# Altium schematic symbol library pporyzala-TI_Lighting.SchLib: 745 symbols (part 37 of 48)
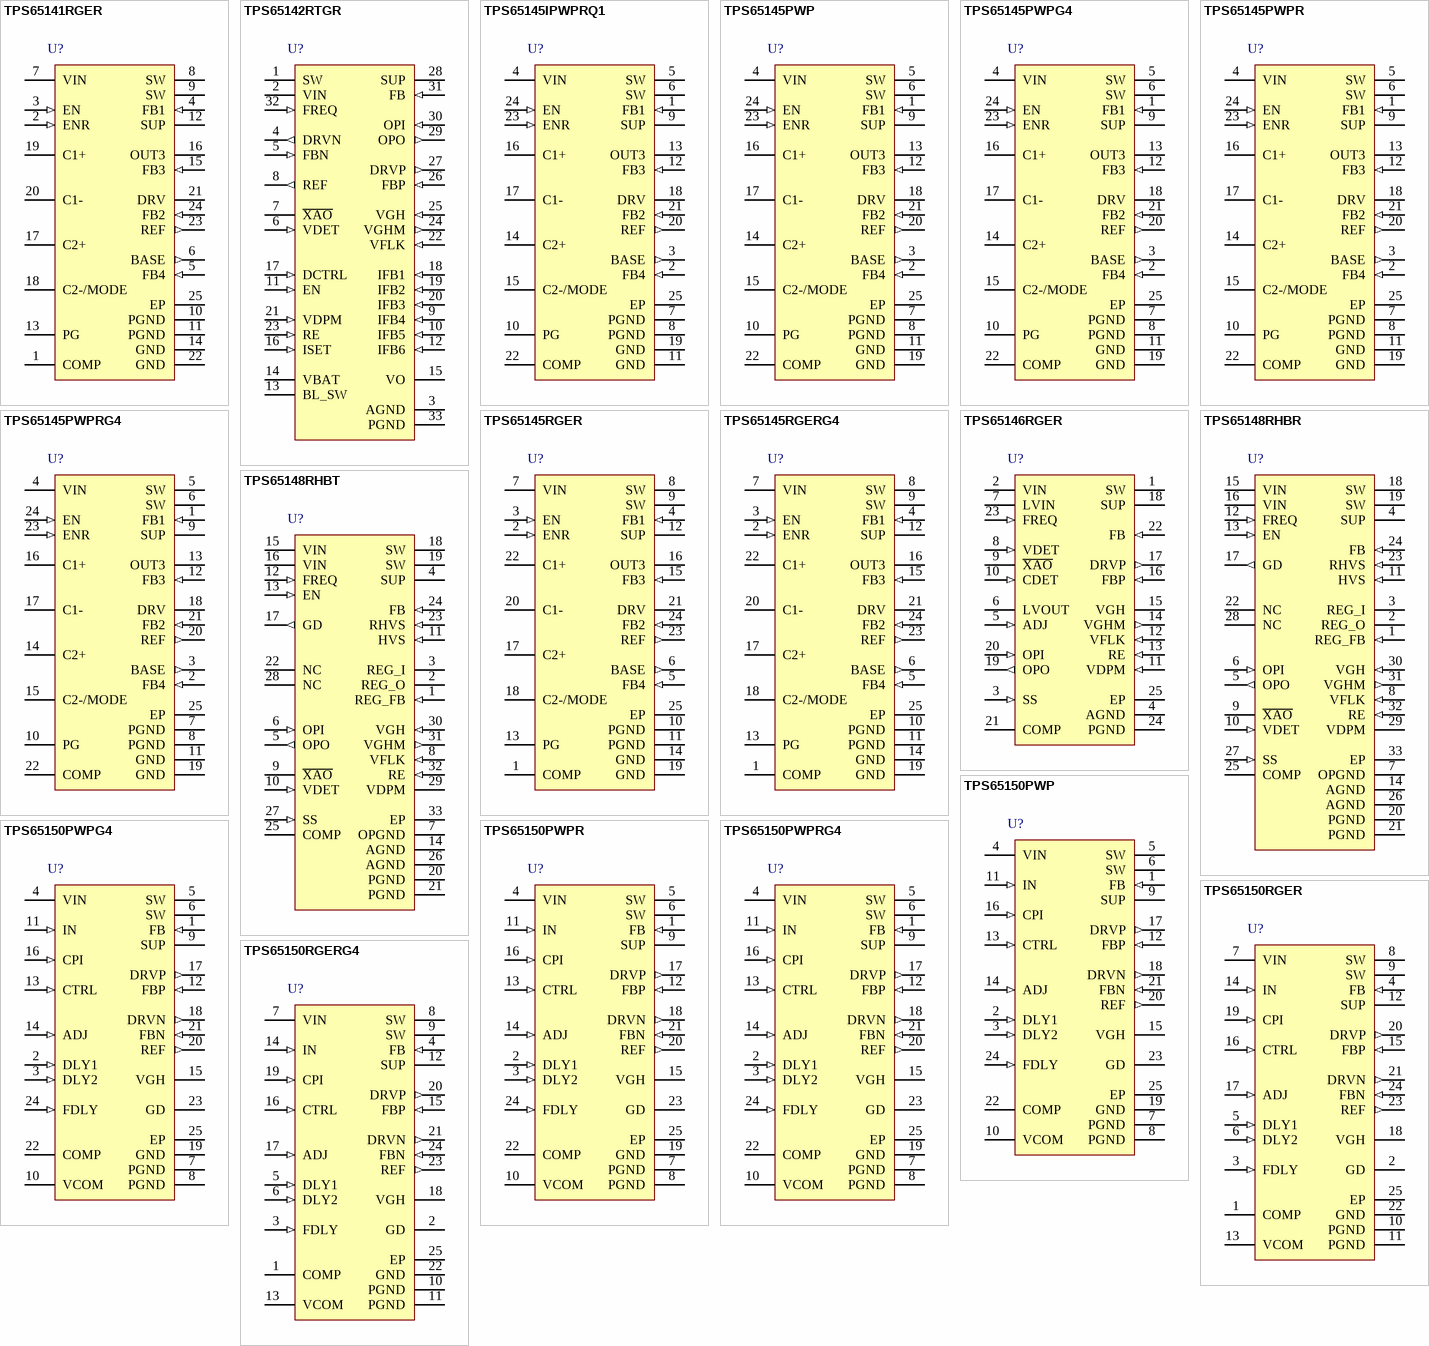
[diagram p67: symbols TPS65141RGER to TPS65150RGERG4]

## TPS65145RGER
designator U?
4-Channel LCD Bias with Fully Integrated Postive Charge Pump, 3.3 V LDO Controller, 2.7 to 5.8 V, -40 to 85 degC, 24-pin QFN (RGE24), Green (RoHS & no Sb/Br); Manufacturer: Texas Instruments; PartNumber: TPS65145RGER; Iout(Max)(A): 0.02; Iq(Typ)(mA): 0.7; Rating: Catalog; SubFamily: LCD/OLED Display Bias Solutions; Switching Frequency(Typ)(kHz): 1600; Topology: Boost, Inverting Buck/Boost; Vin(Max)(V): 5.8; Vin(Min)(V): 2.7; DatasheetVersion: SLVS497E; PackageVersion: 4204104/G; PackageReference: RGE24-2450X2450TP; PackageDescription: 24-Pin Plastic Flat Pack, Body 4 x 4 mm, 0.5 mm Pitch; Supplier 1: Digi-Key; Supplier Part Number 1: 296-16904-2-ND; Supplier 2: Digi-Key; Supplier Part Number 2: 296-16904-1-ND; Supplier 3: Digi-Key; Supplier Part Number 3: 296-16904-6-ND; Supplier 4: Newark; Supplier Part Number 4: 87H2929; Supplier 5: Mouser; Supplier Part Number 5: 595-TPS65145RGER; Eco-Plan: Green (RoHS & no Sb/Br); Mounting Technology: Surface Mount; Code_JEDEC: MO-220; ComponentLink1Description: Manufacturer URL; ComponentLink1URL: http://www.ti.com/; ComponentLink2Description: Datasheet; ComponentLink2URL: http://www.ti.com/general/docs/lit/getliterature.tsp?genericPartNumber=TPS65145&fileType=pdf; ComponentLink3Description: Package Specification; ComponentLink3URL: http://www.ti.com/litv/pdf/mpqf124f
footprint TI-RGE24-2450X2450TP_V (QFN, 24-Leads, Body 4x4mm, Pitch 0.5mm, Thermal Pad 2.45x2.45mm)
pins: 1 COMP "Compensation pin for the main boost converter. A small capacitor is connected to this pin.", 2 ENR (in) "Enable pin of the linear regulator controller. This pin should be terminated and not be left floating. Logic high enables the regulator and a logic low puts the regulator in shutdown.", 3 EN (in) "Enable pin of the device.This pin should be terminated and be left floating.A logic high enables the device and a logic low shuts down the device.", 4 FB1 (in) "Feedback pin of the boost converter", 5 FB4 (in) "Feedback pin the of the linear regulator controller .The linear regulator controller is set to a fixed output voltage of 3.3 V of 3 V depending on the version.", 6 BASE (out) "Base drive output for the external transistor", 7 VIN (power) "Input voltage pin of the device.", 8 SW (power) "Switch pin of the boost converter", 9 SW (power) "Switch pin of the boost converter", 10 PGND (power) "Power ground", 11 PGND (power) "Power ground", 12 SUP (power) "Supply pin of the positive, negative charge pump, boost converter, and gate drive circuit.This pin needs to be connected to the output of the main boots converter and cannot be onnected to any other voltage source.For (See Datasheet)", 13 PG (oc) "Open drain output indicating when all outputs VO1, VO2, VO3 are within 10% of their nominal output voltage. The output goes low when one of the outputs falls below 10% of their nominal output voltage.", 14 GND (power) "Ground", 15 FB3 (in) "Feedback pin of positive charge pump", 16 OUT3 (power) "Positive charge pump output", 17 C2+ "Positive terminal for the charge pump flying capacitor. If the device runs in voltage doubler mode, this pin needs to be left open.", 18 C2-/MODE "Negative terminal of the charge pump flying capacitor and charge pump MODE pin. If the flying capacitor is connected to this pin, the concerter operates in a voltage tripler mode.if the charge pump needs to operate in a (See Datasheet)", 19 GND (power) "Ground", 20 C1- "Negative terminal of the charge pump flying capacitor", 21 DRV (power) "External charge pump driver", 22 C1+ "Positive terminal of the charge pump flying capacitor", 23 REF (out) "Internal reference output typically 1.23 V", 24 FB2 (in) "Feedback pin of negative charge pump", 25 EP (power) "The PowerPAD or exposed thermal die needs to be connected to power ground pins (PGND)"

## TPS65145RGERG4
designator U?
4-Channel LCD Bias with Fully Integrated Postive Charge Pump, 3.3 V LDO Controller, 2.7 to 5.8 V, -40 to 85 degC, 24-pin QFN (RGE24), Green (RoHS & no Sb/Br); Manufacturer: Texas Instruments; PartNumber: TPS65145RGERG4; Iout(Max)(A): 0.02; Iq(Typ)(mA): 0.7; Rating: Catalog; SubFamily: LCD/OLED Display Bias Solutions; Switching Frequency(Typ)(kHz): 1600; Topology: Boost, Inverting Buck/Boost; Vin(Max)(V): 5.8; Vin(Min)(V): 2.7; DatasheetVersion: SLVS497E; PackageVersion: 4204104/G; PackageReference: RGE24-2450X2450TP; PackageDescription: 24-Pin Plastic Flat Pack, Body 4 x 4 mm, 0.5 mm Pitch; Supplier 1: Digi-Key; Supplier Part Number 1: TPS65145RGERG4-ND; Supplier 2: Mouser; Supplier Part Number 2: 595-TPS65145RGERG4; Eco-Plan: Green (RoHS & no Sb/Br); Mounting Technology: Surface Mount; Code_JEDEC: MO-220; ComponentLink1Description: Manufacturer URL; ComponentLink1URL: http://www.ti.com/; ComponentLink2Description: Datasheet; ComponentLink2URL: http://www.ti.com/general/docs/lit/getliterature.tsp?genericPartNumber=TPS65145&fileType=pdf; ComponentLink3Description: Package Specification; ComponentLink3URL: http://www.ti.com/litv/pdf/mpqf124f
footprint TI-RGE24-2450X2450TP_V (QFN, 24-Leads, Body 4x4mm, Pitch 0.5mm, Thermal Pad 2.45x2.45mm)
pins: 1 COMP "Compensation pin for the main boost converter. A small capacitor is connected to this pin.", 2 ENR (in) "Enable pin of the linear regulator controller. This pin should be terminated and not be left floating. Logic high enables the regulator and a logic low puts the regulator in shutdown.", 3 EN (in) "Enable pin of the device.This pin should be terminated and be left floating.A logic high enables the device and a logic low shuts down the device.", 4 FB1 (in) "Feedback pin of the boost converter", 5 FB4 (in) "Feedback pin the of the linear regulator controller .The linear regulator controller is set to a fixed output voltage of 3.3 V of 3 V depending on the version.", 6 BASE (out) "Base drive output for the external transistor", 7 VIN (power) "Input voltage pin of the device.", 8 SW (power) "Switch pin of the boost converter", 9 SW (power) "Switch pin of the boost converter", 10 PGND (power) "Power ground", 11 PGND (power) "Power ground", 12 SUP (power) "Supply pin of the positive, negative charge pump, boost converter, and gate drive circuit.This pin needs to be connected to the output of the main boots converter and cannot be onnected to any other voltage source.For (See Datasheet)", 13 PG (oc) "Open drain output indicating when all outputs VO1, VO2, VO3 are within 10% of their nominal output voltage. The output goes low when one of the outputs falls below 10% of their nominal output voltage.", 14 GND (power) "Ground", 15 FB3 (in) "Feedback pin of positive charge pump", 16 OUT3 (power) "Positive charge pump output", 17 C2+ "Positive terminal for the charge pump flying capacitor. If the device runs in voltage doubler mode, this pin needs to be left open.", 18 C2-/MODE "Negative terminal of the charge pump flying capacitor and charge pump MODE pin. If the flying capacitor is connected to this pin, the concerter operates in a voltage tripler mode.if the charge pump needs to operate in a (See Datasheet)", 19 GND (power) "Ground", 20 C1- "Negative terminal of the charge pump flying capacitor", 21 DRV (power) "External charge pump driver", 22 C1+ "Positive terminal of the charge pump flying capacitor", 23 REF (out) "Internal reference output typically 1.23 V", 24 FB2 (in) "Feedback pin of negative charge pump", 25 EP (power) "The PowerPAD or exposed thermal die needs to be connected to power ground pins (PGND)"

## TPS65146RGER
designator U?
3-Channel LCD Bias with LDO, GPM, VCOM Buffer & Reset IC, 2.5 to 6 V, -40 to 85 degC, 24-pin QFN (RGE24), Green (RoHS & no Sb/Br); Manufacturer: Texas Instruments; PartNumber: TPS65146RGER; Iout(Max)(A): 2; Iq(Typ)(mA): 4.5; Rating: Catalog; SubFamily: LCD/OLED Display Bias Solutions; Switching Frequency(Typ)(kHz): 1200, 600; Topology: Boost, Inverting Buck/Boost Bias; Vin(Max)(V): 6; Vin(Min)(V): 2.5; DatasheetVersion: SLVS869A; PackageVersion: 4204104/G; PackageReference: RGE24-2450X2450TP; PackageDescription: 24-Pin Plastic Flat Pack, Body 4 x 4 mm, 0.5 mm Pitch; Supplier 1: Digi-Key; Supplier Part Number 1: 296-23975-2-ND; Supplier 2: Digi-Key; Supplier Part Number 2: 296-23975-1-ND; Supplier 3: Digi-Key; Supplier Part Number 3: 296-23975-6-ND; Supplier 4: Mouser; Supplier Part Number 4: 595-TPS65146RGER; Eco-Plan: Green (RoHS & no Sb/Br); Mounting Technology: Surface Mount; Code_JEDEC: MO-220; ComponentLink1Description: Manufacturer URL; ComponentLink1URL: http://www.ti.com/; ComponentLink2Description: Datasheet; ComponentLink2URL: http://www.ti.com/general/docs/lit/getliterature.tsp?genericPartNumber=TPS65146&fileType=pdf; ComponentLink3Description: Package Specification; ComponentLink3URL: http://www.ti.com/litv/pdf/mpqf124f
footprint TI-RGE24-2450X2450TP_V (QFN, 24-Leads, Body 4x4mm, Pitch 0.5mm, Thermal Pad 2.45x2.45mm)
pins: 1 SW (power) "Switch pin of the boost converter.", 2 VIN (power) "Input supply pin.", 3 SS (in) "Boost soft-start control pin. Connect a capacitor to this pin if a soft-start is needed. Open = no soft-start.", 4 AGND (power) "Analog ground.", 5 ADJ (in) "LDO feedback pin.", 6 LVOUT (power) "LDO output pin.", 7 LVIN (power) "LDO input supply pin.", 8 VDET (in) "Reset function threshold pin. Connect a voltage divider to this pin to set the threshold voltage.", 9 ~{XAO} (oc) "Reset function output pin (open-drain). X\A\O\ signal is active low.", 10 CDET (in) "Sets the reset delay time. Pin for external capacitor. Floating if no delay is needed.", 11 VDPM (in) "Sets the delay to enable VGHM Output. Pin for external capacitor. Floating if no delay needed.", 12 VFLK (in) "Input pin for charge/discharge signal for VGHM. VFLK = “high” discharges VGHM through RE pin.", 13 RE (in) "Slope adjustment pin for gate voltage shaping. Connect a resistor to this pin to set the discharging slope of VGHM when VFLK = “high”.", 14 VGHM (out) "Gate voltage shaping output pin", 15 VGH (power) "Input pin for the positive charge pump voltage.", 16 FBP (in) "Positive charge pump feedback pin.", 17 DRVP (out) "Voltage driver pin of the positive charge pump.", 18 SUP (power) "Input supply pin for the gate voltage shaping and operational amplifier blocks. Also overvoltage protection sense pin. SUP pin must be supplied by VS voltage.", 19 OPO (out) "Output pin of the VCOM Buffer.", 20 OPI (in) "Input pin of the VCOM Buffer.", 21 COMP "Boost converter compensation pin", 22 FB (in) "Boost converter feedback pin.", 23 FREQ (in) "Boost converter frequency select pin. Oscillator is 650 kHz when FREQ is connected to GND and 1.2 MHz when FREQ is connected to VIN.", 24 PGND (power) "Power ground.", 25 EP (power) "Analog ground."

## TPS65148RHBR
designator U?
4-Channel LCD Bias with GPM, VCOM, Reset Function, 2.5 to 6 V, -40 to 85 degC, 32-pin QFN (RHB32), Green (RoHS & no Sb/Br); Manufacturer: Texas Instruments; PartNumber: TPS65148RHBR; Iq(Typ)(mA): 0.23; Rating: Catalog; SubFamily: LCD/OLED Display Bias Solutions; Switching Frequency(Typ)(kHz): 1200, 600; Topology: Boost; Vin(Max)(V): 6; Vin(Min)(V): 2.5; DatasheetVersion: SLVS904A; PackageVersion: 4204326/D; PackageReference: RHB32-3450X3450TP; PackageDescription: 32-Pin Plastic Flat Pack, Body 5 x 5 mm, Pitch 0.5 mm; Supplier 1: Digi-Key; Supplier Part Number 1: 296-24563-2-ND; Supplier 2: Digi-Key; Supplier Part Number 2: 296-24563-1-ND; Supplier 3: Digi-Key; Supplier Part Number 3: 296-24563-6-ND; Supplier 4: Mouser; Supplier Part Number 4: 595-TPS65148RHBR; Eco-Plan: Green (RoHS & no Sb/Br); Mounting Technology: Surface Mount; Code_JEDEC: MO-220; ComponentLink1Description: Manufacturer URL; ComponentLink1URL: http://www.ti.com/; ComponentLink2Description: Datasheet; ComponentLink2URL: http://www.ti.com/general/docs/lit/getliterature.tsp?genericPartNumber=TPS65148&fileType=pdf; ComponentLink3Description: Package Specification; ComponentLink3URL: http://www.ti.com/lit/ml/mpqf130c/mpqf130c.pdf
footprint TI-RHB32-3450X3450TP_V (QFN, 32-Leads, Body 5x5mm, Pitch 0.5mm, Thermal Pad 3.45x3.45mm)
pins: 1 REG_FB (in) "Voltage regulator feedback pin.", 2 REG_O (power) "Voltage regulator output pin.", 3 REG_I (power) "Voltage regulator input pin.", 4 SUP (power) "Input supply pin for the gate voltage shaping and operational amplifier blocks. Also overvoltage protection sense pin. SUP pin must be supplied by VS voltage.", 5 OPO (out) "VCOM Buffer output pin.", 6 OPI (in) "VCOM Buffer input pin.", 7 OPGND (power) "VCOM Buffer analog ground.", 8 VFLK (in) "Input pin for charge/discharge signal of VGHM. VFLK = 'low' discharges VGHM through RE pin.", 9 ~{XAO} (oc) "Reset function output pin (open-drain). X\A\O\ signal is active low.", 10 VDET (in) "Reset function threshold pin. Connect a voltage divider to this pin to set the threshold voltage.", 11 HVS (in) "High Voltage Stress function logic input pin. Apply a high logic voltage to enable this function", 12 FREQ (in) "Boost converter frequency select pin. Oscillator is 630 kHz when FREQ is connected to GND and 1.2 MHz when FREQ is connected to VIN.", 13 EN (in) "Shutdown control input. Apply a logic high voltage to enable the device.", 14 AGND (power) "Analog ground.", 15 VIN (power) "Input supply pin.", 16 VIN (power) "Input supply pin.", 17 GD (out) "Gate driver pin. Connect the gate of the boost converter's external input-to-output isolation switch to this pin.", 18 SW (power) "Switch pin of the boost converter.", 19 SW (power) "Switch pin of the boost converter.", 20 PGND (power) "Power ground.", 21 PGND (power) "Power ground.", 22 NC "Not connected.", 23 RHVS (in) "Voltage level set pin. Connect a resistor to this pin to set VS voltage when HVS = 'high'.", 24 FB (in) "Boost converter feedback pin.", 25 COMP "Boost converter compensation pin.", 26 AGND (power) "Analog ground.", 27 SS (in) "Boost soft-start control pin. Connect a capacitor to this pin if a soft-start is needed. Open = no soft-start.", 28 NC "Not connected.", 29 VDPM "Sets the delay to enable VGHM output. Pin for external capacitor. Floating if no delay needed.", 30 VGH (in) "Input pin for the positive charge pump voltage.", 31 VGHM (out) "Gate voltage shaping output pin.", 32 RE (in) "Slope adjustment pin for gate voltage shaping. Connect a resistor to this pin to set the discharging slope of VGHM when VFLK = 'low'.", 33 EP (power) "Analog ground."

## TPS65148RHBT
designator U?
4-Channel LCD Bias with GPM, VCOM, Reset Function, 2.5 to 6 V, -40 to 85 degC, 32-pin QFN (RHB32), Green (RoHS & no Sb/Br); Manufacturer: Texas Instruments; PartNumber: TPS65148RHBT; Iq(Typ)(mA): 0.23; Rating: Catalog; SubFamily: LCD/OLED Display Bias Solutions; Switching Frequency(Typ)(kHz): 1200, 600; Topology: Boost; Vin(Max)(V): 6; Vin(Min)(V): 2.5; DatasheetVersion: SLVS904A; PackageVersion: 4204326/D; PackageReference: RHB32-3450X3450TP; PackageDescription: 32-Pin Plastic Flat Pack, Body 5 x 5 mm, Pitch 0.5 mm; Supplier 1: Digi-Key; Supplier Part Number 1: 296-24610-2-ND; Supplier 2: Digi-Key; Supplier Part Number 2: 296-24610-1-ND; Supplier 3: Digi-Key; Supplier Part Number 3: 296-24610-6-ND; Supplier 4: Newark; Supplier Part Number 4: 25R0132; Supplier 5: Mouser; Supplier Part Number 5: 595-TPS65148RHBT; Eco-Plan: Green (RoHS & no Sb/Br); Mounting Technology: Surface Mount; Code_JEDEC: MO-220; ComponentLink1Description: Manufacturer URL; ComponentLink1URL: http://www.ti.com/; ComponentLink2Description: Datasheet; ComponentLink2URL: http://www.ti.com/general/docs/lit/getliterature.tsp?genericPartNumber=TPS65148&fileType=pdf; ComponentLink3Description: Package Specification; ComponentLink3URL: http://www.ti.com/lit/ml/mpqf130c/mpqf130c.pdf
footprint TI-RHB32-3450X3450TP_V (QFN, 32-Leads, Body 5x5mm, Pitch 0.5mm, Thermal Pad 3.45x3.45mm)
pins: 1 REG_FB (in) "Voltage regulator feedback pin.", 2 REG_O (power) "Voltage regulator output pin.", 3 REG_I (power) "Voltage regulator input pin.", 4 SUP (power) "Input supply pin for the gate voltage shaping and operational amplifier blocks. Also overvoltage protection sense pin. SUP pin must be supplied by VS voltage.", 5 OPO (out) "VCOM Buffer output pin.", 6 OPI (in) "VCOM Buffer input pin.", 7 OPGND (power) "VCOM Buffer analog ground.", 8 VFLK (in) "Input pin for charge/discharge signal of VGHM. VFLK = 'low' discharges VGHM through RE pin.", 9 ~{XAO} (oc) "Reset function output pin (open-drain). X\A\O\ signal is active low.", 10 VDET (in) "Reset function threshold pin. Connect a voltage divider to this pin to set the threshold voltage.", 11 HVS (in) "High Voltage Stress function logic input pin. Apply a high logic voltage to enable this function", 12 FREQ (in) "Boost converter frequency select pin. Oscillator is 630 kHz when FREQ is connected to GND and 1.2 MHz when FREQ is connected to VIN.", 13 EN (in) "Shutdown control input. Apply a logic high voltage to enable the device.", 14 AGND (power) "Analog ground.", 15 VIN (power) "Input supply pin.", 16 VIN (power) "Input supply pin.", 17 GD (out) "Gate driver pin. Connect the gate of the boost converter's external input-to-output isolation switch to this pin.", 18 SW (power) "Switch pin of the boost converter.", 19 SW (power) "Switch pin of the boost converter.", 20 PGND (power) "Power ground.", 21 PGND (power) "Power ground.", 22 NC "Not connected.", 23 RHVS (in) "Voltage level set pin. Connect a resistor to this pin to set VS voltage when HVS = 'high'.", 24 FB (in) "Boost converter feedback pin.", 25 COMP "Boost converter compensation pin.", 26 AGND (power) "Analog ground.", 27 SS (in) "Boost soft-start control pin. Connect a capacitor to this pin if a soft-start is needed. Open = no soft-start.", 28 NC "Not connected.", 29 VDPM "Sets the delay to enable VGHM output. Pin for external capacitor. Floating if no delay needed.", 30 VGH (in) "Input pin for the positive charge pump voltage.", 31 VGHM (out) "Gate voltage shaping output pin.", 32 RE (in) "Slope adjustment pin for gate voltage shaping. Connect a resistor to this pin to set the discharging slope of VGHM when VFLK = 'low'.", 33 EP (power) "Analog ground."

## TPS65150PWP
designator U?
3-Channel LCD Bias with GPM, VCOM Buffer & Gate Driver for Isolation Switch, 1.8 to 6 V, -40 to 85 degC, 24-pin SOP (PWP24), Green (RoHS & no Sb/Br); Manufacturer: Texas Instruments; PartNumber: TPS65150PWP; Rating: Catalog; SubFamily: LCD/OLED Display Bias Solutions; Switching Frequency(Typ)(kHz): 1200; Topology: Boost, Inverting Buck/Boost; Vin(Max)(V): 6; Vin(Min)(V): 1.8; DatasheetVersion: SLVS576; PackageVersion: 4073225-5/I; PackageReference: PWP24-4420X1950TP; PackageDescription: 24-Lead, Plastic Small Outline, Body Size 4.4 x 7.8 mm, Pitch 0.65 mm; Supplier 1: Digi-Key; Supplier Part Number 1: TPS65150PWP-ND; Supplier 2: Newark; Supplier Part Number 2: 61K1904; Supplier 3: Mouser; Supplier Part Number 3: 595-TPS65150PWP; Eco-Plan: Green (RoHS & no Sb/Br); Mounting Technology: Surface Mount; Code_JEDEC: MO-153; ComponentLink1Description: Manufacturer URL; ComponentLink1URL: http://www.ti.com/; ComponentLink2Description: Datasheet; ComponentLink2URL: http://www.ti.com/general/docs/lit/getliterature.tsp?genericPartNumber=TPS65150&fileType=pdf; ComponentLink3Description: Package Specification; ComponentLink3URL: http://www.ti.com/lit/ds/symlink/tps65101.pdf
footprint TI-PWP24-4420X1950TP_N (SOP, 24-Leads, Body 7.8x4.4mm, Pitch 0.65mm, Thermal Pad 4.42x1.95mm, IPC Medium Density)
footprint TI-PWP24-4420X1950TP_L (SOP, 24-Leads, Body 7.8x4.4mm, Pitch 0.65mm, Thermal Pad 4.42x1.95mm, IPC High Density)
footprint TI-PWP24-4420X1950TP_M (SOP, 24-Leads, Body 7.8x4.4mm, Pitch 0.65mm, Thermal Pad 4.42x1.95mm, IPC Low Density)
pins: 1 FB (in) "Feedback of the main boost converter generating Vsource (Vs).", 2 DLY1 (in) "Power-on sequencing adjust. Connecting a capacitor from this pin to GND allows to set the delay time between the boost converter output Vs and the negative charge pump VGL during startup.", 3 DLY2 (in) "Power-on sequencing adjust. Connecting a capacitor from this pin to GND allows to set the delay time between the negative charge pump VGL and the positive charge pump during startup. Note that Q5 in the Gate Voltage Shaping (See Datasheet)", 4 VIN (power) "This is the input voltage pin of the device.", 5 SW (power) "Switch pin of the boost converter", 6 SW (power) "Switch pin of the boost converter", 7 PGND (power) "Power ground", 8 PGND (power) "Power ground", 9 SUP (power) "Supply pin of the positive, negative charge pump and Boost Converter Gate Drive Circuit. This pin needs to be connected to the output of the main boost converter and can’t be to any other voltage rail.", 10 VCOM (power) "VCOM buffer output. Typically a 1-uF output capacitor is required on this pin.", 11 IN (in) "Input of the Vcom buffer. If this pin is connected to GND, the Vcom buffer is disabled.", 12 FBP (in) "Feedback pin of the positive charge pump.", 13 CTRL (in) "Control signal for the gate voltage shaping signal. Apply the control signal for the gate voltage control. Usually the timing controller of the LCD panel generates this signal. If this function is not required, this pin (See Datasheet)", 14 ADJ (in) "Gate voltage shaping circuit. Connecting a capacitor to this pin sets the fall time of the positive gate voltage (VGH).", 15 VGH (hiz) "Positive output voltage to drive the TFT gates with an adjustable falltime. This pin is internally connected with a MOSFET switch to the positive charge pump input CPI.", 16 CPI (in) "Input of the VGH isolation switch and gate voltage shaping circuit.", 17 DRVP (out) "Charge pump driver to generate the positive output voltage VGH.", 18 DRVN (out) "Charge pump driver to generate the negative voltage VGL.", 19 GND (power) "Analog ground", 20 REF (out) "Internal reference output typically 1.213 V", 21 FBN (in) "Feedback pin of the negative charge pump VGL.", 22 COMP "This is the compensation pin for the main boost converter. A small capacitor and if required a series resistor is connected to this pin.", 23 GD (hiz) "Active low open drain output. This output is latched low when the boost converter Vs is in regulation. This signal can be used to drive an external MOSFET to provide isolation for Vs.", 24 FDLY (in) "Fault delay. Connecting a capacitor from this pin to Vin allows to set the delay time from the point when one of the outputs (VS, VGH, VGL) drops below its power good threshold until the devices enters the shutdown latch. To (See Datasheet)", 25 EP (power) "The PowerPADTM needs to be soldered to GND"

## TPS65150PWPG4
designator U?
3-Channel LCD Bias with GPM, VCOM Buffer & Gate Driver for Isolation Switch, 1.8 to 6 V, -40 to 85 degC, 24-pin SOP (PWP24), Green (RoHS & no Sb/Br); Manufacturer: Texas Instruments; PartNumber: TPS65150PWPG4; Rating: Catalog; SubFamily: LCD/OLED Display Bias Solutions; Switching Frequency(Typ)(kHz): 1200; Topology: Boost, Inverting Buck/Boost; Vin(Max)(V): 6; Vin(Min)(V): 1.8; DatasheetVersion: SLVS576; PackageVersion: 4073225-5/I; PackageReference: PWP24-4420X1950TP; PackageDescription: 24-Lead, Plastic Small Outline, Body Size 4.4 x 7.8 mm, Pitch 0.65 mm; Supplier 1: Digi-Key; Supplier Part Number 1: TPS65150PWPG4-ND; Supplier 2: Newark; Supplier Part Number 2: 67K8652; Supplier 3: Mouser; Supplier Part Number 3: 595-TPS65150PWPG4; Eco-Plan: Green (RoHS & no Sb/Br); Mounting Technology: Surface Mount; Code_JEDEC: MO-153; ComponentLink1Description: Manufacturer URL; ComponentLink1URL: http://www.ti.com/; ComponentLink2Description: Datasheet; ComponentLink2URL: http://www.ti.com/general/docs/lit/getliterature.tsp?genericPartNumber=TPS65150&fileType=pdf; ComponentLink3Description: Package Specification; ComponentLink3URL: http://www.ti.com/lit/ds/symlink/tps65101.pdf
footprint TI-PWP24-4420X1950TP_N (SOP, 24-Leads, Body 7.8x4.4mm, Pitch 0.65mm, Thermal Pad 4.42x1.95mm, IPC Medium Density)
footprint TI-PWP24-4420X1950TP_L (SOP, 24-Leads, Body 7.8x4.4mm, Pitch 0.65mm, Thermal Pad 4.42x1.95mm, IPC High Density)
footprint TI-PWP24-4420X1950TP_M (SOP, 24-Leads, Body 7.8x4.4mm, Pitch 0.65mm, Thermal Pad 4.42x1.95mm, IPC Low Density)
pins: 1 FB (in) "Feedback of the main boost converter generating Vsource (Vs).", 2 DLY1 (in) "Power-on sequencing adjust. Connecting a capacitor from this pin to GND allows to set the delay time between the boost converter output Vs and the negative charge pump VGL during startup.", 3 DLY2 (in) "Power-on sequencing adjust. Connecting a capacitor from this pin to GND allows to set the delay time between the negative charge pump VGL and the positive charge pump during startup. Note that Q5 in the Gate Voltage Shaping (See Datasheet)", 4 VIN (power) "This is the input voltage pin of the device.", 5 SW (power) "Switch pin of the boost converter", 6 SW (power) "Switch pin of the boost converter", 7 PGND (power) "Power ground", 8 PGND (power) "Power ground", 9 SUP (power) "Supply pin of the positive, negative charge pump and Boost Converter Gate Drive Circuit. This pin needs to be connected to the output of the main boost converter and can’t be to any other voltage rail.", 10 VCOM (power) "VCOM buffer output. Typically a 1-uF output capacitor is required on this pin.", 11 IN (in) "Input of the Vcom buffer. If this pin is connected to GND, the Vcom buffer is disabled.", 12 FBP (in) "Feedback pin of the positive charge pump.", 13 CTRL (in) "Control signal for the gate voltage shaping signal. Apply the control signal for the gate voltage control. Usually the timing controller of the LCD panel generates this signal. If this function is not required, this pin (See Datasheet)", 14 ADJ (in) "Gate voltage shaping circuit. Connecting a capacitor to this pin sets the fall time of the positive gate voltage (VGH).", 15 VGH (hiz) "Positive output voltage to drive the TFT gates with an adjustable falltime. This pin is internally connected with a MOSFET switch to the positive charge pump input CPI.", 16 CPI (in) "Input of the VGH isolation switch and gate voltage shaping circuit.", 17 DRVP (out) "Charge pump driver to generate the positive output voltage VGH.", 18 DRVN (out) "Charge pump driver to generate the negative voltage VGL.", 19 GND (power) "Analog ground", 20 REF (out) "Internal reference output typically 1.213 V", 21 FBN (in) "Feedback pin of the negative charge pump VGL.", 22 COMP "This is the compensation pin for the main boost converter. A small capacitor and if required a series resistor is connected to this pin.", 23 GD (hiz) "Active low open drain output. This output is latched low when the boost converter Vs is in regulation. This signal can be used to drive an external MOSFET to provide isolation for Vs.", 24 FDLY (in) "Fault delay. Connecting a capacitor from this pin to Vin allows to set the delay time from the point when one of the outputs (VS, VGH, VGL) drops below its power good threshold until the devices enters the shutdown latch. To (See Datasheet)", 25 EP (power) "The PowerPADTM needs to be soldered to GND"

## TPS65150PWPR
designator U?
3-Channel LCD Bias with GPM, VCOM Buffer & Gate Driver for Isolation Switch, 1.8 to 6 V, -40 to 85 degC, 24-pin SOP (PWP24), Green (RoHS & no Sb/Br); Manufacturer: Texas Instruments; PartNumber: TPS65150PWPR; Rating: Catalog; SubFamily: LCD/OLED Display Bias Solutions; Switching Frequency(Typ)(kHz): 1200; Topology: Boost, Inverting Buck/Boost; Vin(Max)(V): 6; Vin(Min)(V): 1.8; DatasheetVersion: SLVS576; PackageVersion: 4073225-5/I; PackageReference: PWP24-4420X1950TP; PackageDescription: 24-Lead, Plastic Small Outline, Body Size 4.4 x 7.8 mm, Pitch 0.65 mm; Supplier 1: Digi-Key; Supplier Part Number 1: 296-21166-2-ND; Supplier 2: Digi-Key; Supplier Part Number 2: 296-21166-1-ND; Supplier 3: Digi-Key; Supplier Part Number 3: 296-21166-6-ND; Supplier 4: Newark; Supplier Part Number 4: 61K1905; Supplier 5: Mouser; Supplier Part Number 5: 595-TPS65150PWPR; Eco-Plan: Green (RoHS & no Sb/Br); Mounting Technology: Surface Mount; Code_JEDEC: MO-153; ComponentLink1Description: Manufacturer URL; ComponentLink1URL: http://www.ti.com/; ComponentLink2Description: Datasheet; ComponentLink2URL: http://www.ti.com/general/docs/lit/getliterature.tsp?genericPartNumber=TPS65150&fileType=pdf; ComponentLink3Description: Package Specification; ComponentLink3URL: http://www.ti.com/lit/ds/symlink/tps65101.pdf
footprint TI-PWP24-4420X1950TP_N (SOP, 24-Leads, Body 7.8x4.4mm, Pitch 0.65mm, Thermal Pad 4.42x1.95mm, IPC Medium Density)
footprint TI-PWP24-4420X1950TP_L (SOP, 24-Leads, Body 7.8x4.4mm, Pitch 0.65mm, Thermal Pad 4.42x1.95mm, IPC High Density)
footprint TI-PWP24-4420X1950TP_M (SOP, 24-Leads, Body 7.8x4.4mm, Pitch 0.65mm, Thermal Pad 4.42x1.95mm, IPC Low Density)
pins: 1 FB (in) "Feedback of the main boost converter generating Vsource (Vs).", 2 DLY1 (in) "Power-on sequencing adjust. Connecting a capacitor from this pin to GND allows to set the delay time between the boost converter output Vs and the negative charge pump VGL during startup.", 3 DLY2 (in) "Power-on sequencing adjust. Connecting a capacitor from this pin to GND allows to set the delay time between the negative charge pump VGL and the positive charge pump during startup. Note that Q5 in the Gate Voltage Shaping (See Datasheet)", 4 VIN (power) "This is the input voltage pin of the device.", 5 SW (power) "Switch pin of the boost converter", 6 SW (power) "Switch pin of the boost converter", 7 PGND (power) "Power ground", 8 PGND (power) "Power ground", 9 SUP (power) "Supply pin of the positive, negative charge pump and Boost Converter Gate Drive Circuit. This pin needs to be connected to the output of the main boost converter and can’t be to any other voltage rail.", 10 VCOM (power) "VCOM buffer output. Typically a 1-uF output capacitor is required on this pin.", 11 IN (in) "Input of the Vcom buffer. If this pin is connected to GND, the Vcom buffer is disabled.", 12 FBP (in) "Feedback pin of the positive charge pump.", 13 CTRL (in) "Control signal for the gate voltage shaping signal. Apply the control signal for the gate voltage control. Usually the timing controller of the LCD panel generates this signal. If this function is not required, this pin (See Datasheet)", 14 ADJ (in) "Gate voltage shaping circuit. Connecting a capacitor to this pin sets the fall time of the positive gate voltage (VGH).", 15 VGH (hiz) "Positive output voltage to drive the TFT gates with an adjustable falltime. This pin is internally connected with a MOSFET switch to the positive charge pump input CPI.", 16 CPI (in) "Input of the VGH isolation switch and gate voltage shaping circuit.", 17 DRVP (out) "Charge pump driver to generate the positive output voltage VGH.", 18 DRVN (out) "Charge pump driver to generate the negative voltage VGL.", 19 GND (power) "Analog ground", 20 REF (out) "Internal reference output typically 1.213 V", 21 FBN (in) "Feedback pin of the negative charge pump VGL.", 22 COMP "This is the compensation pin for the main boost converter. A small capacitor and if required a series resistor is connected to this pin.", 23 GD (hiz) "Active low open drain output. This output is latched low when the boost converter Vs is in regulation. This signal can be used to drive an external MOSFET to provide isolation for Vs.", 24 FDLY (in) "Fault delay. Connecting a capacitor from this pin to Vin allows to set the delay time from the point when one of the outputs (VS, VGH, VGL) drops below its power good threshold until the devices enters the shutdown latch. To (See Datasheet)", 25 EP (power) "The PowerPADTM needs to be soldered to GND"

## TPS65150PWPRG4
designator U?
3-Channel LCD Bias with GPM, VCOM Buffer & Gate Driver for Isolation Switch, 1.8 to 6 V, -40 to 85 degC, 24-pin SOP (PWP24), Green (RoHS & no Sb/Br); Manufacturer: Texas Instruments; PartNumber: TPS65150PWPRG4; Rating: Catalog; SubFamily: LCD/OLED Display Bias Solutions; Switching Frequency(Typ)(kHz): 1200; Topology: Boost, Inverting Buck/Boost; Vin(Max)(V): 6; Vin(Min)(V): 1.8; DatasheetVersion: SLVS576; PackageVersion: 4073225-5/I; PackageReference: PWP24-4420X1950TP; PackageDescription: 24-Lead, Plastic Small Outline, Body Size 4.4 x 7.8 mm, Pitch 0.65 mm; Supplier 1: Digi-Key; Supplier Part Number 1: TPS65150PWPRG4-ND; Supplier 2: Newark; Supplier Part Number 2: 66K4536; Supplier 3: Mouser; Supplier Part Number 3: 595-TPS65150PWPRG4; Eco-Plan: Green (RoHS & no Sb/Br); Mounting Technology: Surface Mount; Code_JEDEC: MO-153; ComponentLink1Description: Manufacturer URL; ComponentLink1URL: http://www.ti.com/; ComponentLink2Description: Datasheet; ComponentLink2URL: http://www.ti.com/general/docs/lit/getliterature.tsp?genericPartNumber=TPS65150&fileType=pdf; ComponentLink3Description: Package Specification; ComponentLink3URL: http://www.ti.com/lit/ds/symlink/tps65101.pdf
footprint TI-PWP24-4420X1950TP_N (SOP, 24-Leads, Body 7.8x4.4mm, Pitch 0.65mm, Thermal Pad 4.42x1.95mm, IPC Medium Density)
footprint TI-PWP24-4420X1950TP_L (SOP, 24-Leads, Body 7.8x4.4mm, Pitch 0.65mm, Thermal Pad 4.42x1.95mm, IPC High Density)
footprint TI-PWP24-4420X1950TP_M (SOP, 24-Leads, Body 7.8x4.4mm, Pitch 0.65mm, Thermal Pad 4.42x1.95mm, IPC Low Density)
pins: 1 FB (in) "Feedback of the main boost converter generating Vsource (Vs).", 2 DLY1 (in) "Power-on sequencing adjust. Connecting a capacitor from this pin to GND allows to set the delay time between the boost converter output Vs and the negative charge pump VGL during startup.", 3 DLY2 (in) "Power-on sequencing adjust. Connecting a capacitor from this pin to GND allows to set the delay time between the negative charge pump VGL and the positive charge pump during startup. Note that Q5 in the Gate Voltage Shaping (See Datasheet)", 4 VIN (power) "This is the input voltage pin of the device.", 5 SW (power) "Switch pin of the boost converter", 6 SW (power) "Switch pin of the boost converter", 7 PGND (power) "Power ground", 8 PGND (power) "Power ground", 9 SUP (power) "Supply pin of the positive, negative charge pump and Boost Converter Gate Drive Circuit. This pin needs to be connected to the output of the main boost converter and can’t be to any other voltage rail.", 10 VCOM (power) "VCOM buffer output. Typically a 1-uF output capacitor is required on this pin.", 11 IN (in) "Input of the Vcom buffer. If this pin is connected to GND, the Vcom buffer is disabled.", 12 FBP (in) "Feedback pin of the positive charge pump.", 13 CTRL (in) "Control signal for the gate voltage shaping signal. Apply the control signal for the gate voltage control. Usually the timing controller of the LCD panel generates this signal. If this function is not required, this pin (See Datasheet)", 14 ADJ (in) "Gate voltage shaping circuit. Connecting a capacitor to this pin sets the fall time of the positive gate voltage (VGH).", 15 VGH (hiz) "Positive output voltage to drive the TFT gates with an adjustable falltime. This pin is internally connected with a MOSFET switch to the positive charge pump input CPI.", 16 CPI (in) "Input of the VGH isolation switch and gate voltage shaping circuit.", 17 DRVP (out) "Charge pump driver to generate the positive output voltage VGH.", 18 DRVN (out) "Charge pump driver to generate the negative voltage VGL.", 19 GND (power) "Analog ground", 20 REF (out) "Internal reference output typically 1.213 V", 21 FBN (in) "Feedback pin of the negative charge pump VGL.", 22 COMP "This is the compensation pin for the main boost converter. A small capacitor and if required a series resistor is connected to this pin.", 23 GD (hiz) "Active low open drain output. This output is latched low when the boost converter Vs is in regulation. This signal can be used to drive an external MOSFET to provide isolation for Vs.", 24 FDLY (in) "Fault delay. Connecting a capacitor from this pin to Vin allows to set the delay time from the point when one of the outputs (VS, VGH, VGL) drops below its power good threshold until the devices enters the shutdown latch. To (See Datasheet)", 25 EP (power) "The PowerPADTM needs to be soldered to GND"

## TPS65150RGER
designator U?
3-Channel LCD Bias with GPM, VCOM Buffer & Gate Driver for Isolation Switch, 1.8 to 6 V, -40 to 85 degC, 24-pin QFN (RGE24), Green (RoHS & no Sb/Br); Manufacturer: Texas Instruments; PartNumber: TPS65150RGER; Rating: Catalog; SubFamily: LCD/OLED Display Bias Solutions; Switching Frequency(Typ)(kHz): 1200; Topology: Boost, Inverting Buck/Boost; Vin(Max)(V): 6; Vin(Min)(V): 1.8; DatasheetVersion: SLVS576; PackageVersion: 4204104/G; PackageReference: RGE24-2450X2450TP; PackageDescription: 24-Pin Plastic Flat Pack, Body 4 x 4 mm, 0.5 mm Pitch; Supplier 1: Digi-Key; Supplier Part Number 1: 296-21167-2-ND; Supplier 2: Digi-Key; Supplier Part Number 2: 296-21167-1-ND; Supplier 3: Digi-Key; Supplier Part Number 3: 296-21167-6-ND; Supplier 4: Newark; Supplier Part Number 4: 61K1906; Supplier 5: Mouser; Supplier Part Number 5: 595-TPS65150RGER; Eco-Plan: Green (RoHS & no Sb/Br); Mounting Technology: Surface Mount; Code_JEDEC: MO-220; ComponentLink1Description: Manufacturer URL; ComponentLink1URL: http://www.ti.com/; ComponentLink2Description: Datasheet; ComponentLink2URL: http://www.ti.com/general/docs/lit/getliterature.tsp?genericPartNumber=TPS65150&fileType=pdf; ComponentLink3Description: Package Specification; ComponentLink3URL: http://www.ti.com/litv/pdf/mpqf124f
footprint TI-RGE24-2450X2450TP_V (QFN, 24-Leads, Body 4x4mm, Pitch 0.5mm, Thermal Pad 2.45x2.45mm)
pins: 1 COMP "This is the compensation pin for the main boost converter. A small capacitor and if required a series resistor is connected to this pin.", 2 GD (hiz) "Active low open drain output. This output is latched low when the boost converter Vs is in regulation. This signal can be used to drive an external MOSFET to provide isolation for Vs.", 3 FDLY (in) "Fault delay. Connecting a capacitor from this pin to Vin allows to set the delay time from the point when one of the outputs (VS, VGH, VGL) drops below its power good threshold until the devices enters the shutdown latch. To (See Datasheet)", 4 FB (in) "Feedback of the main boost converter generating Vsource (Vs).", 5 DLY1 (in) "Power-on sequencing adjust. Connecting a capacitor from this pin to GND allows to set the delay time between the boost converter output Vs and the negative charge pump VGL during startup.", 6 DLY2 (in) "Power-on sequencing adjust. Connecting a capacitor from this pin to GND allows to set the delay time between the negative charge pump VGL and the positive charge pump during startup. Note that Q5 in the Gate Voltage Shaping (See Datasheet)", 7 VIN (power) "This is the input voltage pin of the device.", 8 SW (power) "Switch pin of the boost converter", 9 SW (power) "Switch pin of the boost converter", 10 PGND (power) "Power ground", 11 PGND (power) "Power ground", 12 SUP (power) "Supply pin of the positive, negative charge pump and Boost Converter Gate Drive Circuit. This pin needs to be connected to the output of the main boost converter and can’t be to any other voltage rail.", 13 VCOM (power) "VCOM buffer output. Typically a 1-uF output capacitor is required on this pin.", 14 IN (in) "Input of the Vcom buffer. If this pin is connected to GND, the Vcom buffer is disabled.", 15 FBP (in) "Feedback pin of the positive charge pump.", 16 CTRL (in) "Control signal for the gate voltage shaping signal. Apply the control signal for the gate voltage control. Usually the timing controller of the LCD panel generates this signal. If this function is not required, this pin (See Datasheet)", 17 ADJ (in) "Gate voltage shaping circuit. Connecting a capacitor to this pin sets the fall time of the positive gate voltage (VGH).", 18 VGH (hiz) "Positive output voltage to drive the TFT gates with an adjustable falltime. This pin is internally connected with a MOSFET switch to the positive charge pump input CPI.", 19 CPI (in) "Input of the VGH isolation switch and gate voltage shaping circuit.", 20 DRVP (out) "Charge pump driver to generate the positive output voltage VGH.", 21 DRVN (out) "Charge pump driver to generate the negative voltage VGL.", 22 GND (power) "Analog ground", 23 REF (out) "Internal reference output typically 1.213 V", 24 FBN (in) "Feedback pin of the negative charge pump VGL.", 25 EP (power) "The PowerPADTM needs to be soldered to GND"

## TPS65150RGERG4
designator U?
3-Channel LCD Bias with GPM, VCOM Buffer & Gate Driver for Isolation Switch, 1.8 to 6 V, -40 to 85 degC, 24-pin QFN (RGE24), Green (RoHS & no Sb/Br); Manufacturer: Texas Instruments; PartNumber: TPS65150RGERG4; Rating: Catalog; SubFamily: LCD/OLED Display Bias Solutions; Switching Frequency(Typ)(kHz): 1200; Topology: Boost, Inverting Buck/Boost; Vin(Max)(V): 6; Vin(Min)(V): 1.8; DatasheetVersion: SLVS576; PackageVersion: 4204104/G; PackageReference: RGE24-2450X2450TP; PackageDescription: 24-Pin Plastic Flat Pack, Body 4 x 4 mm, 0.5 mm Pitch; Supplier 1: Digi-Key; Supplier Part Number 1: TPS65150RGERG4-ND; Supplier 2: Newark; Supplier Part Number 2: 70K5760; Supplier 3: Mouser; Supplier Part Number 3: 595-TPS65150RGERG4; Eco-Plan: Green (RoHS & no Sb/Br); Mounting Technology: Surface Mount; Code_JEDEC: MO-220; ComponentLink1Description: Manufacturer URL; ComponentLink1URL: http://www.ti.com/; ComponentLink2Description: Datasheet; ComponentLink2URL: http://www.ti.com/general/docs/lit/getliterature.tsp?genericPartNumber=TPS65150&fileType=pdf; ComponentLink3Description: Package Specification; ComponentLink3URL: http://www.ti.com/litv/pdf/mpqf124f
footprint TI-RGE24-2450X2450TP_V (QFN, 24-Leads, Body 4x4mm, Pitch 0.5mm, Thermal Pad 2.45x2.45mm)
pins: 1 COMP "This is the compensation pin for the main boost converter. A small capacitor and if required a series resistor is connected to this pin.", 2 GD (hiz) "Active low open drain output. This output is latched low when the boost converter Vs is in regulation. This signal can be used to drive an external MOSFET to provide isolation for Vs.", 3 FDLY (in) "Fault delay. Connecting a capacitor from this pin to Vin allows to set the delay time from the point when one of the outputs (VS, VGH, VGL) drops below its power good threshold until the devices enters the shutdown latch. To (See Datasheet)", 4 FB (in) "Feedback of the main boost converter generating Vsource (Vs).", 5 DLY1 (in) "Power-on sequencing adjust. Connecting a capacitor from this pin to GND allows to set the delay time between the boost converter output Vs and the negative charge pump VGL during startup.", 6 DLY2 (in) "Power-on sequencing adjust. Connecting a capacitor from this pin to GND allows to set the delay time between the negative charge pump VGL and the positive charge pump during startup. Note that Q5 in the Gate Voltage Shaping (See Datasheet)", 7 VIN (power) "This is the input voltage pin of the device.", 8 SW (power) "Switch pin of the boost converter", 9 SW (power) "Switch pin of the boost converter", 10 PGND (power) "Power ground", 11 PGND (power) "Power ground", 12 SUP (power) "Supply pin of the positive, negative charge pump and Boost Converter Gate Drive Circuit. This pin needs to be connected to the output of the main boost converter and can’t be to any other voltage rail.", 13 VCOM (power) "VCOM buffer output. Typically a 1-uF output capacitor is required on this pin.", 14 IN (in) "Input of the Vcom buffer. If this pin is connected to GND, the Vcom buffer is disabled.", 15 FBP (in) "Feedback pin of the positive charge pump.", 16 CTRL (in) "Control signal for the gate voltage shaping signal. Apply the control signal for the gate voltage control. Usually the timing controller of the LCD panel generates this signal. If this function is not required, this pin (See Datasheet)", 17 ADJ (in) "Gate voltage shaping circuit. Connecting a capacitor to this pin sets the fall time of the positive gate voltage (VGH).", 18 VGH (hiz) "Positive output voltage to drive the TFT gates with an adjustable falltime. This pin is internally connected with a MOSFET switch to the positive charge pump input CPI.", 19 CPI (in) "Input of the VGH isolation switch and gate voltage shaping circuit.", 20 DRVP (out) "Charge pump driver to generate the positive output voltage VGH.", 21 DRVN (out) "Charge pump driver to generate the negative voltage VGL.", 22 GND (power) "Analog ground", 23 REF (out) "Internal reference output typically 1.213 V", 24 FBN (in) "Feedback pin of the negative charge pump VGL.", 25 EP (power) "The PowerPADTM needs to be soldered to GND"

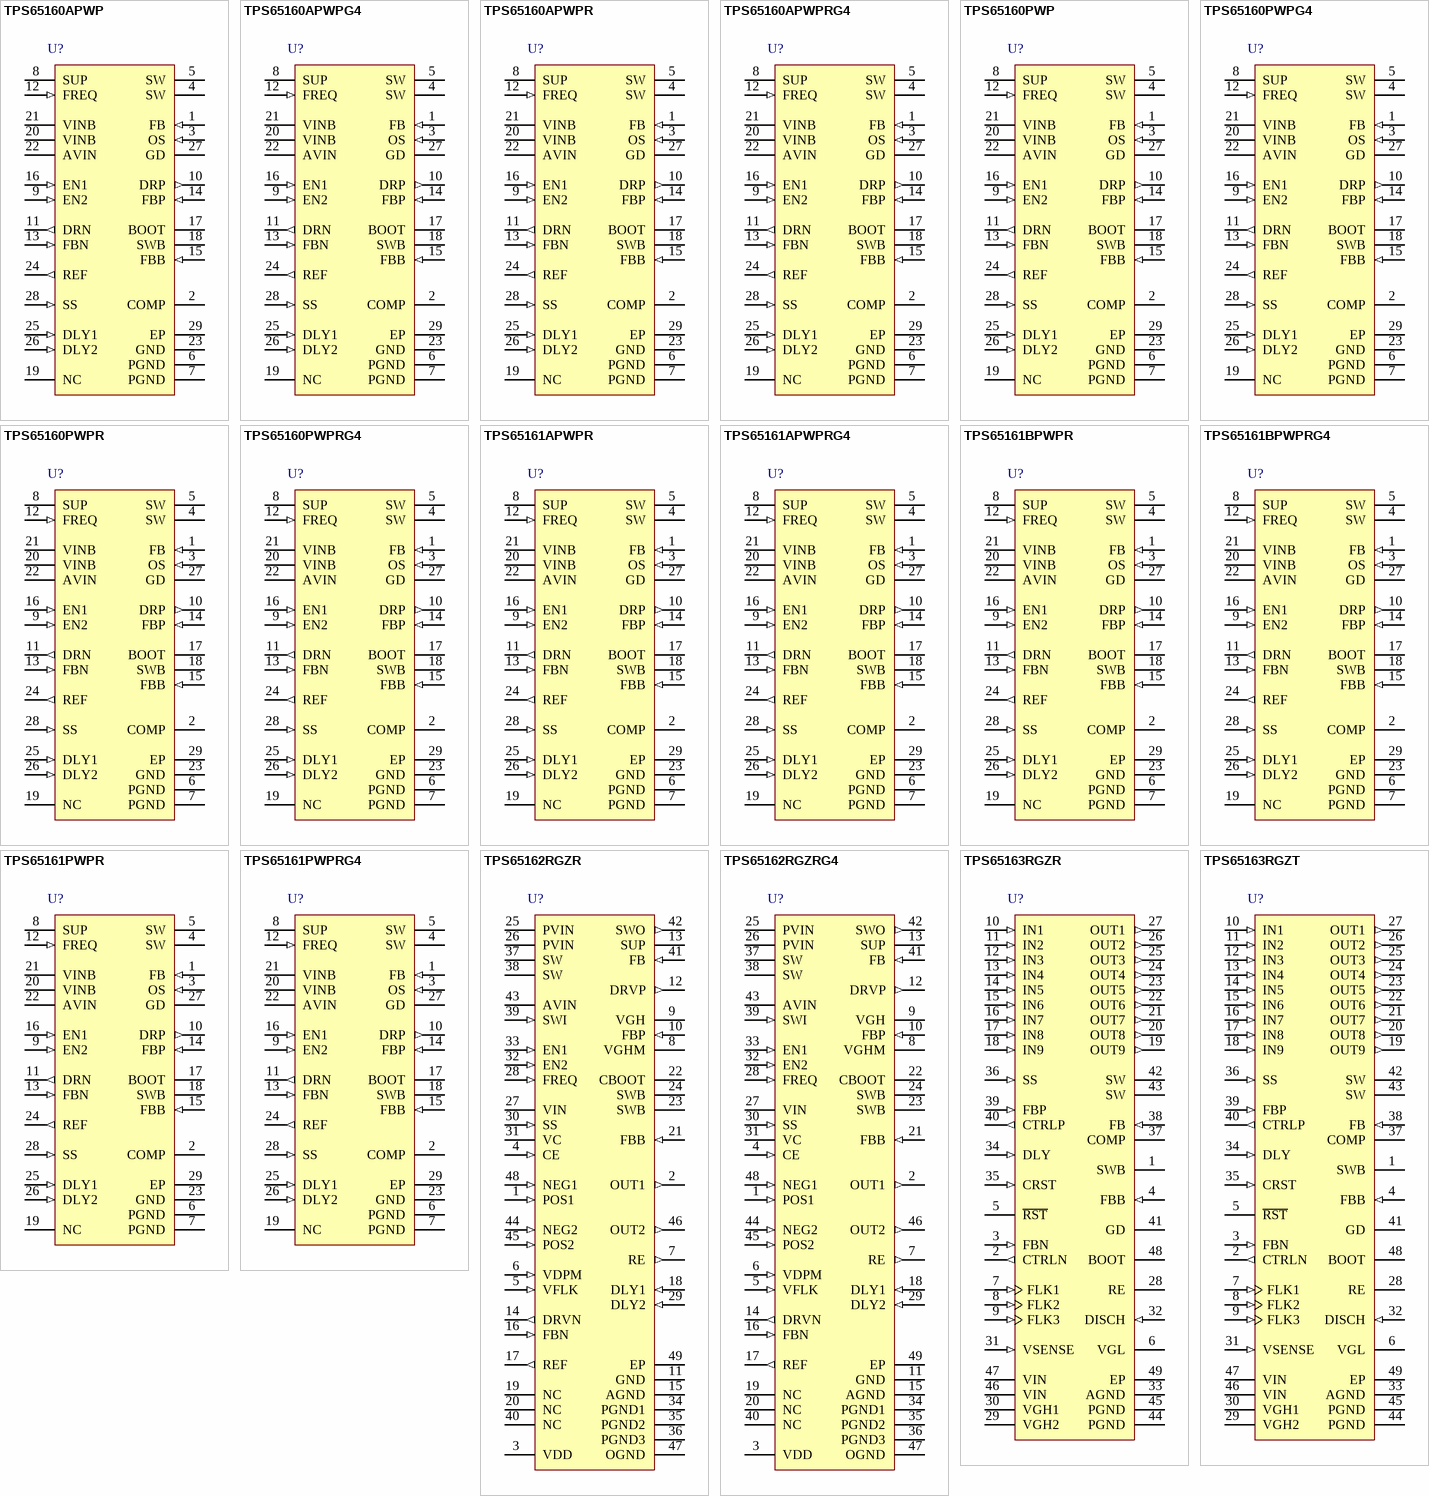
[diagram p24: symbols TPS65160APWP to TPS65163RGZT]

## TPS65160APWP
designator U?
4-Channel LCD Bias, 9.2 to 14 V, -40 to 85 degC, 28-pin SOP (PWP28), Green (RoHS & no Sb/Br); Manufacturer: Texas Instruments; PartNumber: TPS65160APWP; Rating: Catalog; SubFamily: LCD/OLED Display Bias Solutions; Switching Frequency(Typ)(kHz): 750, 500; Topology: Buck, Boost, Inverting Buck/Boost; Vin(Max)(V): 14; Vin(Min)(V): 9.2; DatasheetVersion: SLVS566B; PackageVersion: 4073225-6/I; PackageReference: PWP28-5720X1950TP; PackageDescription: 28-Pin Plastic Small Outline, Body 4.4 x 9.7 mm, Pitch 0.65 mm; Supplier 1: Digi-Key; Supplier Part Number 1: TPS65160APWP-ND; Supplier 2: Newark; Supplier Part Number 2: 52K5946; Supplier 3: Mouser; Supplier Part Number 3: 595-TPS65160APWP; Eco-Plan: Green (RoHS & no Sb/Br); Mounting Technology: Surface Mount; Code_JEDEC: MO-153; ComponentLink1Description: Manufacturer URL; ComponentLink1URL: http://www.ti.com/; ComponentLink2Description: Datasheet; ComponentLink2URL: http://www.ti.com/general/docs/lit/getliterature.tsp?genericPartNumber=TPS65160A&fileType=pdf; ComponentLink3Description: Package Specification; ComponentLink3URL: http://www.ti.com/litv/pdf/mpds373
footprint TI-PWP28-5720X1950TP_N (SOP, 28-Leads, Body 9.7x4.4mm, Pitch 0.65mm, Thermal Pad 5.72 x 1.95mm, IPC Medium Density)
footprint TI-PWP28-5720X1950TP_L (SOP, 28-Leads, Body 9.7x4.4mm, Pitch 0.65mm, Thermal Pad 5.72 x 1.95mm, IPC High Density)
footprint TI-PWP28-5720X1950TP_M (SOP, 28-Leads, Body 9.7x4.4mm, Pitch 0.65mm, Thermal Pad 5.72 x 1.95mm, IPC Low Density)
pins: 1 FB (in) "Feedback of the main boost converter generating Vsource (VS).", 2 COMP "This is the compensation pin for the main boost converter. A small capacitor and, if required, a resistor is connected to this pin.", 3 OS (in) "Output sense pin. The OS pin is connected to the internal rectifier switch and overvoltage protection comparator. This pin needs to be connected to the output of the boost converter and cannot be connected to any other (See Datasheet)", 4 SW (power) "Switch pin of the boost converter generating Vsource (VS).", 5 SW (power) "Switch pin of the boost converter generating Vsource (VS).", 6 PGND (power) "Power ground", 7 PGND (power) "Power ground", 8 SUP (power) "This is the supply pin of the positive charge pump driver and can be connected to the input supply VIN or the output of the main boost converter VS. This depends mainly on the desired output voltage VGH and numbers of charge (See Datasheet)", 9 EN2 (in) "The boost converter starts only with EN1 = high, after the step-down converter is enabled. EN2 is the enable pin of the boost converter and positive charge pump. When this pin is pulled high, the boost converter and positive (See Datasheet)", 10 DRP (out) "Drive pin of the positive charge pump.", 11 DRN (out) "Drive pin of the negative charge pump.", 12 FREQ (in) "Frequency adjust pin. This pin allows setting the switching frequency with a logic level to 500 kHz = low and 750 kHz = high.", 13 FBN (in) "Feedback pin of negative charge pump.", 14 FBP (in) "Feedback pin of positive charge pump.", 15 FBB (in) "Feedback pin of the buck converter", 16 EN1 (in) "This is the enable pin of the buck converter and negative charge pump. When this pin is pulled high, the buck converter starts up, and after a delay time set by DLY1, the negative charge pump comes up. This pin must be (See Datasheet)", 17 BOOT "N-channel MOSFET gate drive voltage for the buck converter. Connect a capacitor from the switch node SWB to this pin.", 18 SWB (power) "Switch pin of the buck converter", 19 NC "Not connected", 20 VINB (power) "Power input voltage pin for the buck converter.", 21 VINB (power) "Power input voltage pin for the buck converter.", 22 AVIN (power) "Analog input voltage of the device. This is the input for the analog circuits of the device and should be bypassed with a 1-uF ceramic capacitor for good filtering.", 23 GND (power) "Analog ground", 24 REF (out) "Internal reference output typically 1.213 V. A 220-nF capacitor needs to be connected to this pin.", 25 DLY1 (in) "Connecting a capacitor from this pin to GND allows the setting of the delay time between V(LOGIC) (step-down converter output high) to VGL during start-up.", 26 DLY2 (in) "Connecting a capacitor from this pin to GND allows the setting of the delay time between V(LOGIC) (step-down converter output high) to VS boost converter and positive charge-pump VGH during start-up.", 27 GD (hiz) "This is the gate drive pin which can be used to control an external MOSFET switch to provide input to output isolation of VS or VGH. See the circuit diagrams at the end of this data sheet. GD is an open-drain output and is (See Datasheet)", 28 SS (in) "This pin allows setting the soft-start time for the main boost converter VS. Typically a 22-nF capacitor needs to be connected to this pin to set the soft-start time.", 29 EP (power) "The thermally enhanced PowerPAD is connected to PGND."